# Altium footprint library VDFN-8.PcbLib: 1 footprints
Each footprint in its own frame and in the unit in brackets; x right, y up, seen from the top. Pads: shape width x height; smd on the part's side, far side on the other; paste and mask are expansions set on the pad; w line width, h text height; cw(c..) or ccw(c..) is an arc to the next point about the centre after c.
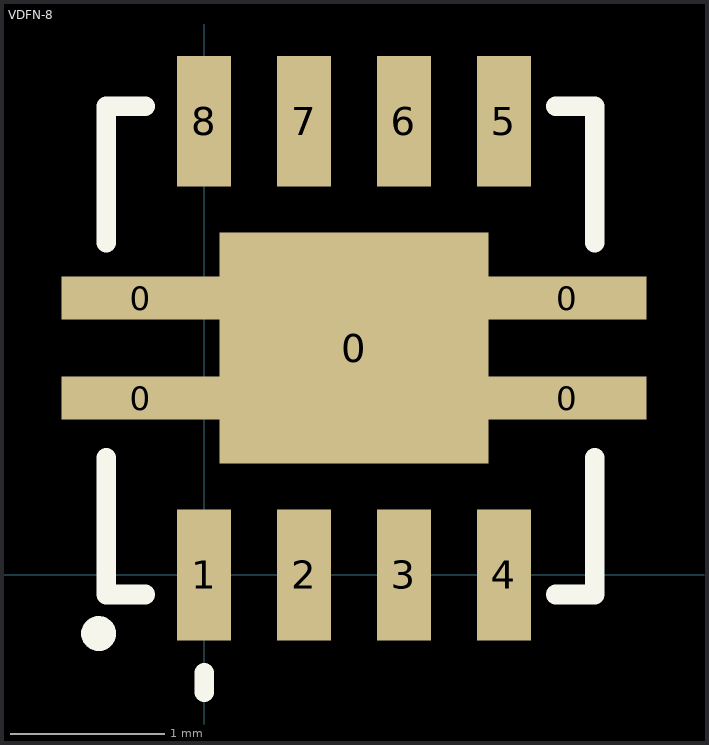
[diagram p0: the footprint, top view; thin cyan lines are the x and y axes]

## VDFN-8 [mm]
pads (13):
  rect 1.025x0.28 smd paste-0.05: 0(-0.413,1.15) 0(-0.413,1.8) 0(2.362,1.15) 0(2.362,1.8)
  rect 1.75x1.5 smd paste-0.1: 0(0.975,1.475)
  rect 0.35x0.85 smd paste-0.05 mask+0.07: 1(0,0) 2(0.65,0) 3(1.3,0) 4(1.95,0) 5(1.95,2.95) 6(1.3,2.95) 7(0.65,2.95) 8(0,2.95)
Top Overlay:
  circle w0.127: c-0.685,-0.381 r0.05
  lines w0.127: -0.635,0.762 -0.635,-0.127 -0.381,-0.127 ; -0.635,2.159 -0.635,3.048 -0.381,3.048 ; 0,-0.762 0,-0.635 ; 2.286,-0.127 2.54,-0.127 2.54,0.762 ; 2.286,3.048 2.54,3.048 2.54,2.159
3D body: height 1, standoff 0, extent -0.6,-0.1 2.55,3.05